# Altium schematic symbol library CAPACITOR_POLAR.Schlib: 1 symbol
Pins are listed as number, name and electrical type; pins without a type are passive.

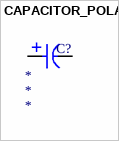
[diagram p0: symbol CAPACITOR_POLAR]

## CAPACITOR_POLAR
designator C?, comment CAPACITOR POLAR  (value not drawn)
Value: *; Package: *; Voltage: *
pins: 1, 2